# Altium schematic symbol library R-8.Schlib: 1 symbol
Pins are listed as number, name and electrical type; pins without a type are passive.

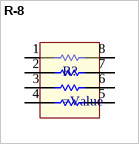
[diagram p0: symbol R-8]

## R-8
designator R?
=Description
pins: 1, 2, 3, 4, 5, 6, 7, 8